# Altium integrated library Intersil DSP 10-Bit.IntLib: 7 symbols
Pins are listed as number, name and electrical type; pins without a type are passive.

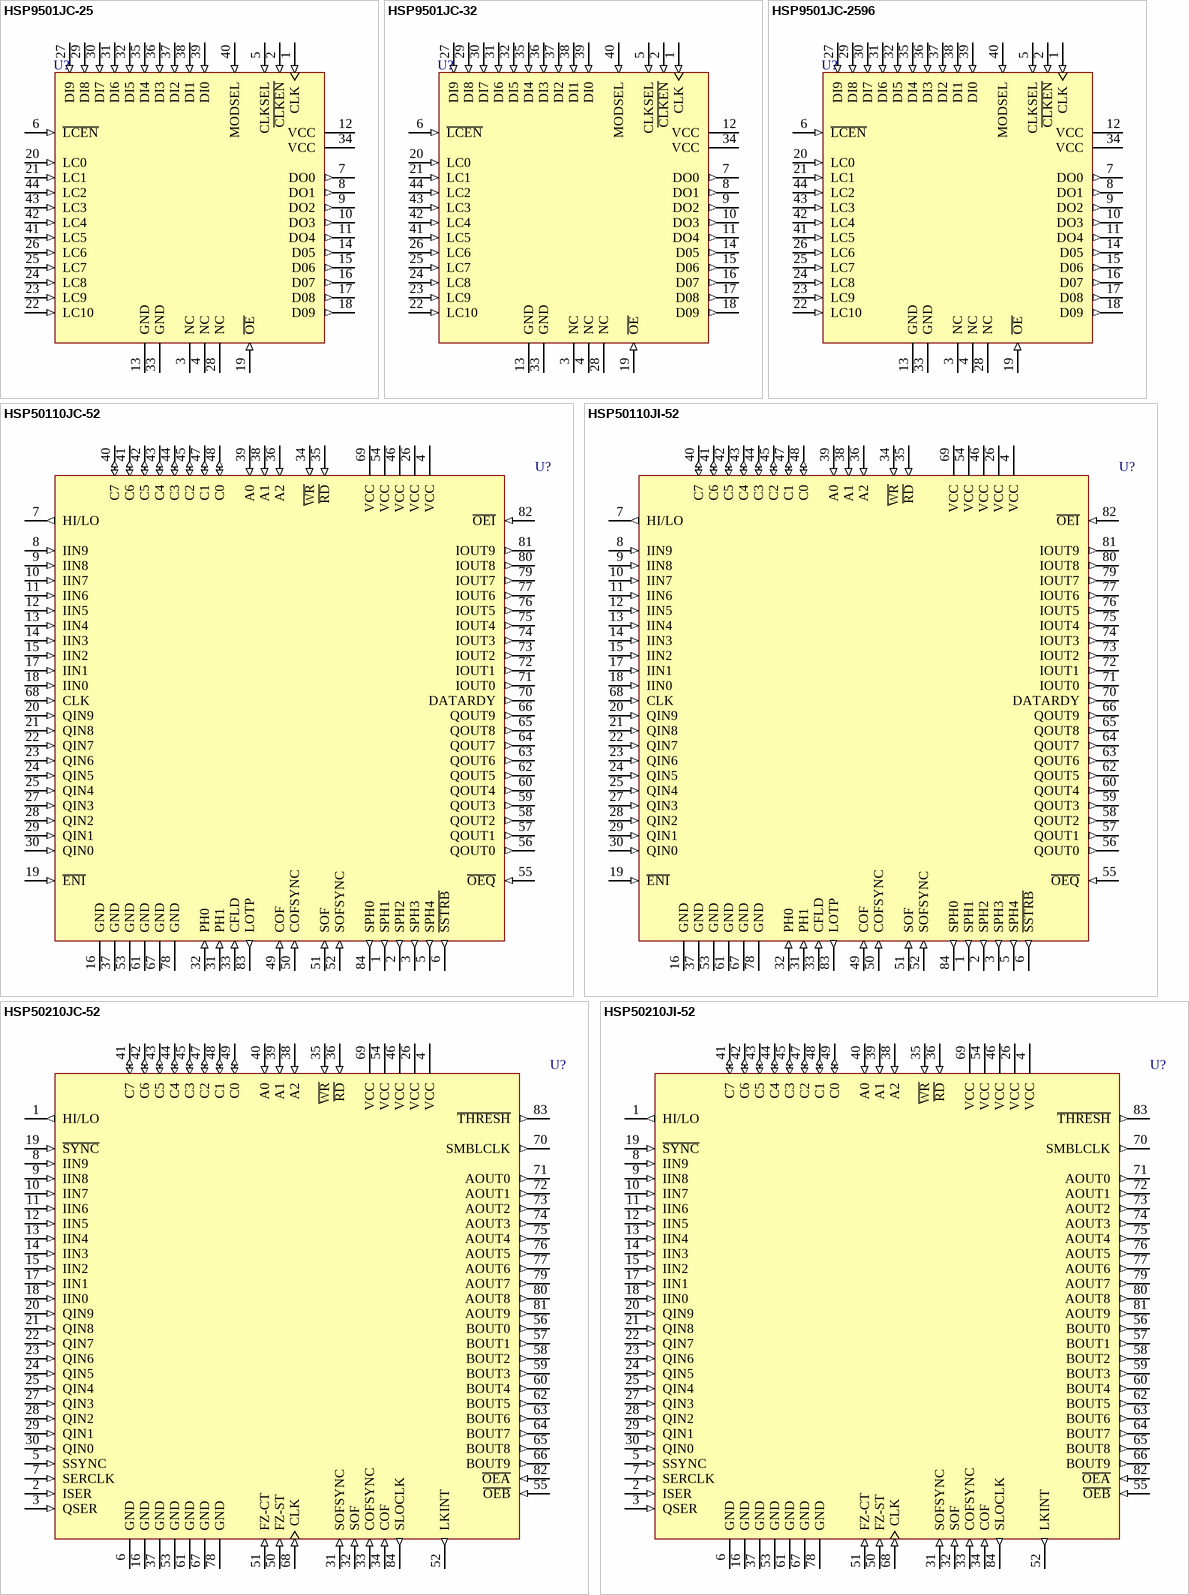
[diagram p0: symbols HSP9501JC-25 to HSP50210JI-52]

## HSP9501JC-25
designator U?
Programmmable Data Buffer; Published: 17-Jul-2002; LatestRevisionDate: 13-Apr-2006; LatestRevisionNote: IPC-7351 Footprint Added.; DatasheetVersion: Jan-1999; PackageVersion: Nov-1997; PackageReference: N44.65; Publisher: Altium Limited; PackageDescription: 44-Pin Leaded Chip Carrier 1.27 mm Pitch; Code_IPC: PLCC-44; ComponentLink1Description: Manufacturer Link; ComponentLink1URL: http://www.intersil.com/cda/home/; ComponentLink2Description: Datasheet; ComponentLink2URL: http://www.intersil.com/data/fn/fn2786.pdf
footprint N44.65_N (Leaded Chip Carrier, 44-Leads, Body 16.6x16.6mm, Pitch 1.27mm, IPC Medium Density)
footprint N44.65_L (Leaded Chip Carrier, 44-Leads, Body 16.6x16.6mm, Pitch 1.27mm, IPC High Density)
footprint N44.65_M (Leaded Chip Carrier, 44-Leads, Body 16.6x16.6mm, Pitch 1.27mm, IPC Low Density)
3D model HSP9501-N44_65 (44-Pin Leaded Chip Carrier 1.27 mm Pitch)
pins: 1 CLK (in), 2 ~{CLKEN} (in), 3 NC, 4 NC, 5 CLKSEL (in), 6 ~{LCEN} (in), 7 DO0 (out), 8 DO1 (out), 9 DO2 (out), 10 DO3 (out), 11 DO4 (out), 12 VCC (power), 13 GND (power), 14 D05 (out), 15 D06 (out), 16 D07 (out), 17 D08 (out), 18 D09 (out), 19 ~{OE} (in), 20 LC0 (in), 21 LC1 (in), 22 LC10 (in), 23 LC9 (in), 24 LC8 (in), 25 LC7 (in), 26 LC6 (in), 27 DI9 (in), 28 NC, 29 DI8 (in), 30 DI7 (in), 31 DI6 (in), 32 DI5 (in), 33 GND (power), 34 VCC (power), 35 DI4 (in), 36 DI3 (in), 37 DI2 (in), 38 DI1 (in), 39 DI0 (in), 40 MODSEL (in), 41 LC5 (in), 42 LC4 (in), 43 LC3 (in), 44 LC2 (in)

## HSP9501JC-32
designator U?
Programmmable Data Buffer; Published: 17-Jul-2002; LatestRevisionDate: 13-Apr-2006; LatestRevisionNote: IPC-7351 Footprint Added.; DatasheetVersion: Jan-1999; PackageVersion: Nov-1997; PackageReference: N44.65; Publisher: Altium Limited; PackageDescription: 44-Pin Leaded Chip Carrier 1.27 mm Pitch; Code_IPC: PLCC-44; ComponentLink1Description: Manufacturer Link; ComponentLink1URL: http://www.intersil.com/cda/home/; ComponentLink2Description: Datasheet; ComponentLink2URL: http://www.intersil.com/data/fn/fn2786.pdf
footprint N44.65_N (Leaded Chip Carrier, 44-Leads, Body 16.6x16.6mm, Pitch 1.27mm, IPC Medium Density)
footprint N44.65_L (Leaded Chip Carrier, 44-Leads, Body 16.6x16.6mm, Pitch 1.27mm, IPC High Density)
footprint N44.65_M (Leaded Chip Carrier, 44-Leads, Body 16.6x16.6mm, Pitch 1.27mm, IPC Low Density)
3D model HSP9501-N44_65 (44-Pin Leaded Chip Carrier 1.27 mm Pitch)
pins: 1 CLK (in), 2 ~{CLKEN} (in), 3 NC, 4 NC, 5 CLKSEL (in), 6 ~{LCEN} (in), 7 DO0 (out), 8 DO1 (out), 9 DO2 (out), 10 DO3 (out), 11 DO4 (out), 12 VCC (power), 13 GND (power), 14 D05 (out), 15 D06 (out), 16 D07 (out), 17 D08 (out), 18 D09 (out), 19 ~{OE} (in), 20 LC0 (in), 21 LC1 (in), 22 LC10 (in), 23 LC9 (in), 24 LC8 (in), 25 LC7 (in), 26 LC6 (in), 27 DI9 (in), 28 NC, 29 DI8 (in), 30 DI7 (in), 31 DI6 (in), 32 DI5 (in), 33 GND (power), 34 VCC (power), 35 DI4 (in), 36 DI3 (in), 37 DI2 (in), 38 DI1 (in), 39 DI0 (in), 40 MODSEL (in), 41 LC5 (in), 42 LC4 (in), 43 LC3 (in), 44 LC2 (in)

## HSP9501JC-2596
designator U?
Programmmable Data Buffer; Published: 17-Jul-2002; LatestRevisionDate: 13-Apr-2006; LatestRevisionNote: IPC-7351 Footprint Added.; DatasheetVersion: Jan-1999; PackageVersion: Nov-1997; PackageReference: N44.65; Publisher: Altium Limited; PackageDescription: 44-Pin Leaded Chip Carrier 1.27 mm Pitch; Code_IPC: PLCC-44; ComponentLink1Description: Manufacturer Link; ComponentLink1URL: http://www.intersil.com/cda/home/; ComponentLink2Description: Datasheet; ComponentLink2URL: http://www.intersil.com/data/fn/fn2786.pdf
footprint N44.65_N (Leaded Chip Carrier, 44-Leads, Body 16.6x16.6mm, Pitch 1.27mm, IPC Medium Density)
footprint N44.65_L (Leaded Chip Carrier, 44-Leads, Body 16.6x16.6mm, Pitch 1.27mm, IPC High Density)
footprint N44.65_M (Leaded Chip Carrier, 44-Leads, Body 16.6x16.6mm, Pitch 1.27mm, IPC Low Density)
3D model HSP9501-N44_65 (44-Pin Leaded Chip Carrier 1.27 mm Pitch)
pins: 1 CLK (in), 2 ~{CLKEN} (in), 3 NC, 4 NC, 5 CLKSEL (in), 6 ~{LCEN} (in), 7 DO0 (out), 8 DO1 (out), 9 DO2 (out), 10 DO3 (out), 11 DO4 (out), 12 VCC (power), 13 GND (power), 14 D05 (out), 15 D06 (out), 16 D07 (out), 17 D08 (out), 18 D09 (out), 19 ~{OE} (in), 20 LC0 (in), 21 LC1 (in), 22 LC10 (in), 23 LC9 (in), 24 LC8 (in), 25 LC7 (in), 26 LC6 (in), 27 DI9 (in), 28 NC, 29 DI8 (in), 30 DI7 (in), 31 DI6 (in), 32 DI5 (in), 33 GND (power), 34 VCC (power), 35 DI4 (in), 36 DI3 (in), 37 DI2 (in), 38 DI1 (in), 39 DI0 (in), 40 MODSEL (in), 41 LC5 (in), 42 LC4 (in), 43 LC3 (in), 44 LC2 (in)

## HSP50110JC-52
designator U?
Digital Quadrature Tuner; Published: 17-Jul-2002; LatestRevisionDate: 13-Apr-2006; LatestRevisionNote: IPC-7351 Footprint Added.; DatasheetVersion: Jan-1999; PackageVersion: Nov-1997; PackageReference: N84.1.15; Publisher: Altium Limited; PackageDescription: 84-Pin Leaded Chip Carrier 1.27 mm Pitch; Code_IPC: PLCC-84; ComponentLink1Description: Manufacturer Link; ComponentLink1URL: http://www.intersil.com/cda/home/; ComponentLink2Description: Datasheet; ComponentLink2URL: http://www.intersil.com/data/fn/fn4149.pdf
footprint N84.1.15_N (Leaded Chip Carrier, 84-Leads, Body 29.3x29.3mm, Pitch 1.27mm, IPC Medium Density)
footprint N84.1.15_L (Leaded Chip Carrier, 84-Leads, Body 29.3x29.3mm, Pitch 1.27mm, IPC High Density)
footprint N84.1.15_M (Leaded Chip Carrier, 84-Leads, Body 29.3x29.3mm, Pitch 1.27mm, IPC Low Density)
3D model HSP50110-N84_1_15 (84-Pin Leaded Chip Carrier 1.27 mm Pitch)
pins: 1 SPH1 (out), 2 SPH2 (out), 3 SPH3 (out), 4 VCC (power), 5 SPH4 (out), 6 ~{SSTRB} (out), 7 HI/LO (out), 8 IIN9 (in), 9 IIN8 (in), 10 IIN7 (in), 11 IIN6 (in), 12 IIN5 (in), 13 IIN4 (in), 14 IIN3 (in), 15 IIN2 (in), 16 GND (power), 17 IIN1 (in), 18 IIN0 (in), 19 ~{ENI} (in), 20 QIN9 (in), 21 QIN8 (in), 22 QIN7 (in), 23 QIN6 (in), 24 QIN5 (in), 25 QIN4 (in), 26 VCC (power), 27 QIN3 (in), 28 QIN2 (in), 29 QIN1 (in), 30 QIN0 (in), 31 PH1 (in), 32 PH0 (in), 33 CFLD (in), 34 ~{WR} (in), 35 ~{RD} (in), 36 A2 (in), 37 GND (power), 38 A1 (in), 39 A0 (in), 40 C7 (io), 41 C6 (io), 42 C5 (io), 43 C4 (io), 44 C3 (io), 45 C2 (io), 46 VCC (power), 47 C1 (io), 48 C0 (io), 49 COF (in), 50 COFSYNC (in), 51 SOF (in), 52 SOFSYNC (in), 53 GND (power), 54 VCC (power), 55 ~{OEQ} (in), 56 QOUT0 (out), 57 QOUT1 (out), 58 QOUT2 (out), 59 QOUT3 (out), 60 QOUT4 (out), 61 GND (power), 62 QOUT5 (out), 63 QOUT6 (out), 64 QOUT7 (out), 65 QOUT8 (out), 66 QOUT9 (out), 67 GND (power), 68 CLK (in), 69 VCC (power), 70 DATARDY (out), 71 IOUT0 (out), 72 IOUT1 (out), 73 IOUT2 (out), 74 IOUT3 (out), 75 IOUT4 (out), 76 IOUT5 (out), 77 IOUT6 (out), 78 GND (power), 79 IOUT7 (out), 80 IOUT8 (out), 81 IOUT9 (out), 82 ~{OEI} (in), 83 LOTP (out), 84 SPH0 (out)

## HSP50110JI-52
designator U?
Digital Quadrature Tuner; Published: 17-Jul-2002; LatestRevisionDate: 13-Apr-2006; LatestRevisionNote: IPC-7351 Footprint Added.; DatasheetVersion: Jan-1999; PackageVersion: Nov-1997; PackageReference: N84.1.15; Publisher: Altium Limited; PackageDescription: 84-Pin Leaded Chip Carrier 1.27 mm Pitch; Code_IPC: PLCC-84; ComponentLink1Description: Manufacturer Link; ComponentLink1URL: http://www.intersil.com/cda/home/; ComponentLink2Description: Datasheet; ComponentLink2URL: http://www.intersil.com/data/fn/fn4149.pdf
footprint N84.1.15_N (Leaded Chip Carrier, 84-Leads, Body 29.3x29.3mm, Pitch 1.27mm, IPC Medium Density)
footprint N84.1.15_L (Leaded Chip Carrier, 84-Leads, Body 29.3x29.3mm, Pitch 1.27mm, IPC High Density)
footprint N84.1.15_M (Leaded Chip Carrier, 84-Leads, Body 29.3x29.3mm, Pitch 1.27mm, IPC Low Density)
3D model HSP50110-N84_1_15 (84-Pin Leaded Chip Carrier 1.27 mm Pitch)
pins: 1 SPH1 (out), 2 SPH2 (out), 3 SPH3 (out), 4 VCC (power), 5 SPH4 (out), 6 ~{SSTRB} (out), 7 HI/LO (out), 8 IIN9 (in), 9 IIN8 (in), 10 IIN7 (in), 11 IIN6 (in), 12 IIN5 (in), 13 IIN4 (in), 14 IIN3 (in), 15 IIN2 (in), 16 GND (power), 17 IIN1 (in), 18 IIN0 (in), 19 ~{ENI} (in), 20 QIN9 (in), 21 QIN8 (in), 22 QIN7 (in), 23 QIN6 (in), 24 QIN5 (in), 25 QIN4 (in), 26 VCC (power), 27 QIN3 (in), 28 QIN2 (in), 29 QIN1 (in), 30 QIN0 (in), 31 PH1 (in), 32 PH0 (in), 33 CFLD (in), 34 ~{WR} (in), 35 ~{RD} (in), 36 A2 (in), 37 GND (power), 38 A1 (in), 39 A0 (in), 40 C7 (io), 41 C6 (io), 42 C5 (io), 43 C4 (io), 44 C3 (io), 45 C2 (io), 46 VCC (power), 47 C1 (io), 48 C0 (io), 49 COF (in), 50 COFSYNC (in), 51 SOF (in), 52 SOFSYNC (in), 53 GND (power), 54 VCC (power), 55 ~{OEQ} (in), 56 QOUT0 (out), 57 QOUT1 (out), 58 QOUT2 (out), 59 QOUT3 (out), 60 QOUT4 (out), 61 GND (power), 62 QOUT5 (out), 63 QOUT6 (out), 64 QOUT7 (out), 65 QOUT8 (out), 66 QOUT9 (out), 67 GND (power), 68 CLK (in), 69 VCC (power), 70 DATARDY (out), 71 IOUT0 (out), 72 IOUT1 (out), 73 IOUT2 (out), 74 IOUT3 (out), 75 IOUT4 (out), 76 IOUT5 (out), 77 IOUT6 (out), 78 GND (power), 79 IOUT7 (out), 80 IOUT8 (out), 81 IOUT9 (out), 82 ~{OEI} (in), 83 LOTP (out), 84 SPH0 (out)

## HSP50210JC-52
designator U?
Digital Costas Loop; Published: 17-Jul-2002; LatestRevisionDate: 13-Apr-2006; LatestRevisionNote: IPC-7351 Footprint Added.; DatasheetVersion: Jan-1999; PackageVersion: Nov-1997; PackageReference: N84.1.15; Publisher: Altium Limited; PackageDescription: 84-Pin Leaded Chip Carrier 1.27 mm Pitch; Code_IPC: PLCC-84; ComponentLink1Description: Manufacturer Link; ComponentLink1URL: http://www.intersil.com/cda/home/; ComponentLink2Description: Datasheet; ComponentLink2URL: http://www.intersil.com/data/fn/fn3652.pdf
footprint N84.1.15_N (Leaded Chip Carrier, 84-Leads, Body 29.3x29.3mm, Pitch 1.27mm, IPC Medium Density)
footprint N84.1.15_L (Leaded Chip Carrier, 84-Leads, Body 29.3x29.3mm, Pitch 1.27mm, IPC High Density)
footprint N84.1.15_M (Leaded Chip Carrier, 84-Leads, Body 29.3x29.3mm, Pitch 1.27mm, IPC Low Density)
3D model HSP50210-N84_1_15 (84-Pin Leaded Chip Carrier 1.27 mm Pitch)
pins: 1 HI/LO (out), 2 ISER (in), 3 QSER (in), 4 VCC (power), 5 SSYNC (in), 6 GND (power), 7 SERCLK (in), 8 IIN9 (in), 9 IIN8 (in), 10 IIN7 (in), 11 IIN6 (in), 12 IIN5 (in), 13 IIN4 (in), 14 IIN3 (in), 15 IIN2 (in), 16 GND (power), 17 IIN1 (in), 18 IIN0 (in), 19 ~{SYNC} (in), 20 QIN9 (in), 21 QIN8 (in), 22 QIN7 (in), 23 QIN6 (in), 24 QIN5 (in), 25 QIN4 (in), 26 VCC (power), 27 QIN3 (in), 28 QIN2 (in), 29 QIN1 (in), 30 QIN0 (in), 31 SOFSYNC (in), 32 SOF (in), 33 COFSYNC (in), 34 COF (in), 35 ~{WR} (in), 36 ~{RD} (in), 37 GND (power), 38 A2 (in), 39 A1 (in), 40 A0 (in), 41 C7 (io), 42 C6 (io), 43 C5 (io), 44 C4 (io), 45 C3 (io), 46 VCC (power), 47 C2 (io), 48 C1 (io), 49 C0 (io), 50 FZ-ST (in), 51 FZ-CT (in), 52 LKINT (out), 53 GND (power), 54 VCC (power), 55 ~{OEB} (in), 56 BOUT0 (out), 57 BOUT1 (out), 58 BOUT2 (out), 59 BOUT3 (out), 60 BOUT4 (out), 61 GND (power), 62 BOUT5 (out), 63 BOUT6 (out), 64 BOUT7 (out), 65 BOUT8 (out), 66 BOUT9 (out), 67 GND (power), 68 CLK (in), 69 VCC (power), 70 SMBLCLK (out), 71 AOUT0 (out), 72 AOUT1 (out), 73 AOUT2 (out), 74 AOUT3 (out), 75 AOUT4 (out), 76 AOUT5 (out), 77 AOUT6 (out), 78 GND (power), 79 AOUT7 (out), 80 AOUT8 (out), 81 AOUT9 (out), 82 ~{OEA} (in), 83 ~{THRESH} (out), 84 SLOCLK (out)

## HSP50210JI-52
designator U?
Digital Costas Loop; Published: 17-Jul-2002; LatestRevisionDate: 13-Apr-2006; LatestRevisionNote: IPC-7351 Footprint Added.; DatasheetVersion: Jan-1999; PackageVersion: Nov-1997; PackageReference: N84.1.15; Publisher: Altium Limited; PackageDescription: 84-Pin Leaded Chip Carrier 1.27 mm Pitch; Code_IPC: PLCC-84; ComponentLink1Description: Manufacturer Link; ComponentLink1URL: http://www.intersil.com/cda/home/; ComponentLink2Description: Datasheet; ComponentLink2URL: http://www.intersil.com/data/fn/fn3652.pdf
footprint N84.1.15_N (Leaded Chip Carrier, 84-Leads, Body 29.3x29.3mm, Pitch 1.27mm, IPC Medium Density)
footprint N84.1.15_L (Leaded Chip Carrier, 84-Leads, Body 29.3x29.3mm, Pitch 1.27mm, IPC High Density)
footprint N84.1.15_M (Leaded Chip Carrier, 84-Leads, Body 29.3x29.3mm, Pitch 1.27mm, IPC Low Density)
3D model HSP50210-N84_1_15 (84-Pin Leaded Chip Carrier 1.27 mm Pitch)
pins: 1 HI/LO (out), 2 ISER (in), 3 QSER (in), 4 VCC (power), 5 SSYNC (in), 6 GND (power), 7 SERCLK (in), 8 IIN9 (in), 9 IIN8 (in), 10 IIN7 (in), 11 IIN6 (in), 12 IIN5 (in), 13 IIN4 (in), 14 IIN3 (in), 15 IIN2 (in), 16 GND (power), 17 IIN1 (in), 18 IIN0 (in), 19 ~{SYNC} (in), 20 QIN9 (in), 21 QIN8 (in), 22 QIN7 (in), 23 QIN6 (in), 24 QIN5 (in), 25 QIN4 (in), 26 VCC (power), 27 QIN3 (in), 28 QIN2 (in), 29 QIN1 (in), 30 QIN0 (in), 31 SOFSYNC (in), 32 SOF (in), 33 COFSYNC (in), 34 COF (in), 35 ~{WR} (in), 36 ~{RD} (in), 37 GND (power), 38 A2 (in), 39 A1 (in), 40 A0 (in), 41 C7 (io), 42 C6 (io), 43 C5 (io), 44 C4 (io), 45 C3 (io), 46 VCC (power), 47 C2 (io), 48 C1 (io), 49 C0 (io), 50 FZ-ST (in), 51 FZ-CT (in), 52 LKINT (out), 53 GND (power), 54 VCC (power), 55 ~{OEB} (in), 56 BOUT0 (out), 57 BOUT1 (out), 58 BOUT2 (out), 59 BOUT3 (out), 60 BOUT4 (out), 61 GND (power), 62 BOUT5 (out), 63 BOUT6 (out), 64 BOUT7 (out), 65 BOUT8 (out), 66 BOUT9 (out), 67 GND (power), 68 CLK (in), 69 VCC (power), 70 SMBLCLK (out), 71 AOUT0 (out), 72 AOUT1 (out), 73 AOUT2 (out), 74 AOUT3 (out), 75 AOUT4 (out), 76 AOUT5 (out), 77 AOUT6 (out), 78 GND (power), 79 AOUT7 (out), 80 AOUT8 (out), 81 AOUT9 (out), 82 ~{OEA} (in), 83 ~{THRESH} (out), 84 SLOCLK (out)